# Altium footprint library EEG_PcbLib.PcbLib: 129 footprints (part 5 of 9)
Each footprint in its own frame and in the unit in brackets; x right, y up, seen from the top. Pads: shape width x height; smd on the part's side, far side on the other; paste and mask are expansions set on the pad; w line width, h text height; cw(c..) or ccw(c..) is an arc to the next point about the centre after c.
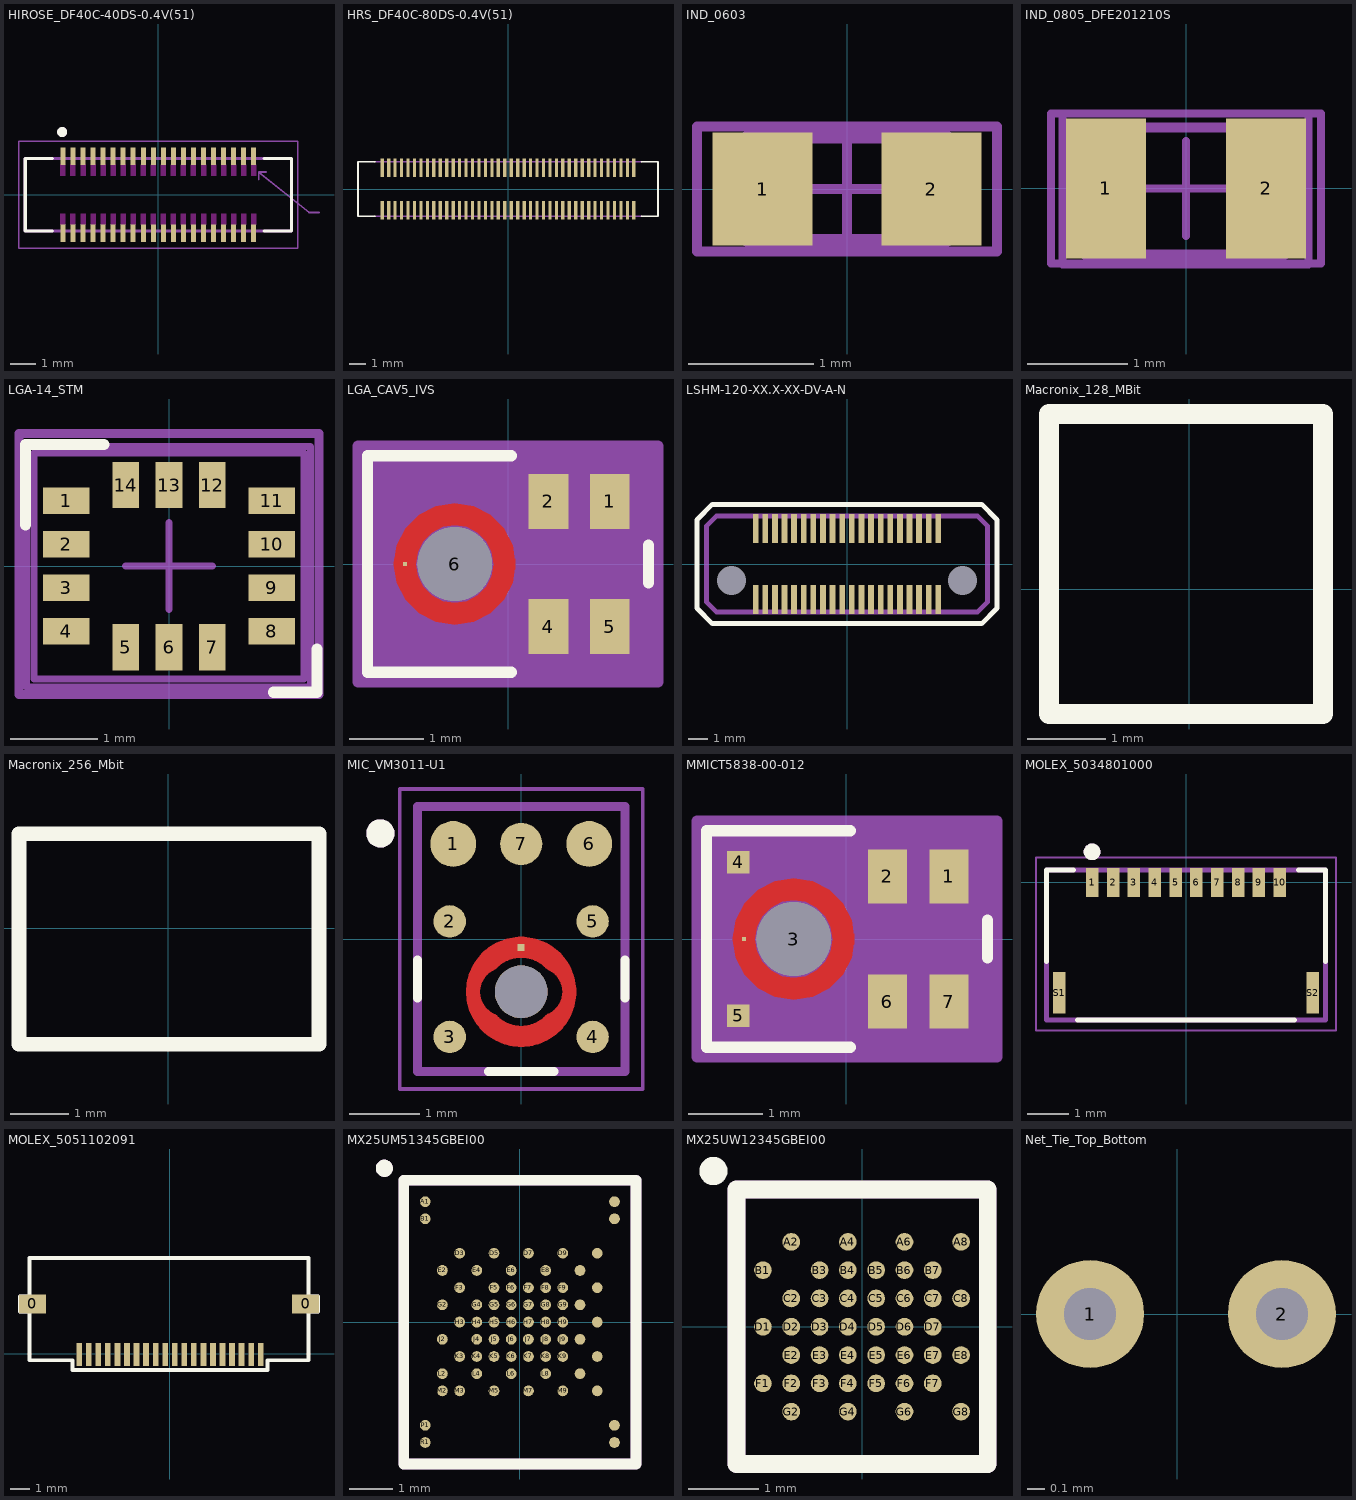
[diagram p4: the footprints below, top view; thin cyan lines are the x and y axes]

## HIROSE_DF40C-40DS-0.4V(51) [mm]
pads (40):
  rect 0.2x0.7 smd paste-1: 1(-3.8,1.54) 2(-3.8,-1.54) 3(-3.4,1.54) 4(-3.4,-1.54) 5(-3,1.54) 6(-3,-1.54) 7(-2.6,1.54) 8(-2.6,-1.54) 9(-2.2,1.54) 10(-2.2,-1.54) 11(-1.8,1.54) 12(-1.8,-1.54) 13(-1.4,1.54) 14(-1.4,-1.54) 15(-1,1.54) 16(-1,-1.54) 17(-0.6,1.54) 18(-0.6,-1.54) 19(-0.2,1.54) 20(-0.2,-1.54) 21(0.2,1.54) 22(0.2,-1.54) 23(0.6,1.54) 24(0.6,-1.54) 25(1,1.54) 26(1,-1.54) 27(1.4,1.54) 28(1.4,-1.54) 29(1.8,1.54) 30(1.8,-1.54) 31(2.2,1.54) 32(2.2,-1.54) 33(2.6,1.54) 34(2.6,-1.54) 35(3,1.54) 36(3,-1.54) 37(3.4,1.54) 38(3.4,-1.54) 39(3.8,1.54) 40(3.8,-1.54)
Top Overlay:
  circle w0.2: c-3.83,2.5 r0.1
  lines w0.127: -4.22,-1.44 -5.3,-1.44 -5.3,1.44 -4.22,1.44 ; 4.22,-1.44 5.3,-1.44 5.3,1.44 4.22,1.44
Top Paste:
  drawing of 40 lines, arcs and shapes, not listed
Keep-Out Layer:
  drawing of 44 lines, arcs and shapes, not listed
Mechanical 13:
  circle w0.2: c-3.83,2.5 r0.1
  lines w0.076: 4,0.6 4,0.9 ; 4.3,0.9 4,0.9 ; 6.4,-0.7 6,-0.7 4,0.9
  lines w0.127: -5.3,-1.44 5.3,-1.44 5.3,1.44 -5.3,1.44 -5.3,-1.44
  text "other than same circuit" at 6.66,-1.953 h0.41
  text "No Pattern area" at 6.66,-1.14 h0.41
Mechanical 15:
  lines w0.05: -5.55,-2.14 -5.55,2.14 5.55,2.14 5.55,-2.14 -5.55,-2.14
3D body "df40c-40ds-0_4v_51_.stp": height 1.46, standoff 0.01, extent -5.415,-1.69 5.185,1.69

## HRS_DF40C-80DS-0.4V(51) [mm]
pads (80):
  rect 0.2x1.14 smd: 1(-7.8,-1.32) 2(-7.8,1.32) 3(-7.4,-1.32) 4(-7.4,1.32) 5(-7,-1.32) 6(-7,1.32) 7(-6.6,-1.32) 8(-6.6,1.32) 9(-6.2,-1.32) 10(-6.2,1.32) 11(-5.8,-1.32) 12(-5.8,1.32) 13(-5.4,-1.32) 14(-5.4,1.32) 15(-5,-1.32) 16(-5,1.32) 17(-4.6,-1.32) 18(-4.6,1.32) 19(-4.2,-1.32) 20(-4.2,1.32) 21(-3.8,-1.32) 22(-3.8,1.32) 23(-3.4,-1.32) 24(-3.4,1.32) 25(-3,-1.32) 26(-3,1.32) 27(-2.6,-1.32) 28(-2.6,1.32) 29(-2.2,-1.32) 30(-2.2,1.32) 31(-1.8,-1.32) 32(-1.8,1.32) 33(-1.4,-1.32) 34(-1.4,1.32) 35(-1,-1.32) 36(-1,1.32) 37(-0.6,-1.32) 38(-0.6,1.32) 39(-0.2,-1.32) 40(-0.2,1.32) 41(0.2,-1.32) 42(0.2,1.32) 43(0.6,-1.32) 44(0.6,1.32) 45(1,-1.32) 46(1,1.32) 47(1.4,-1.32) 48(1.4,1.32) 49(1.8,-1.32) 50(1.8,1.32) 51(2.2,-1.32) 52(2.2,1.32) 53(2.6,-1.32) 54(2.6,1.32) 55(3,-1.32) 56(3,1.32) 57(3.4,-1.32) 58(3.4,1.32) 59(3.8,-1.32) 60(3.8,1.32) 61(4.2,-1.32) 62(4.2,1.32) 63(4.6,-1.32) 64(4.6,1.32) 65(5,-1.32) 66(5,1.32) 67(5.4,-1.32) 68(5.4,1.32) 69(5.8,-1.32) 70(5.8,1.32) 71(6.2,-1.32) 72(6.2,1.32) 73(6.6,-1.32) 74(6.6,1.32) 75(7,-1.32) 76(7,1.32) 77(7.4,-1.32) 78(7.4,1.32) 79(7.8,-1.32) 80(7.8,1.32)
Top Overlay:
  lines w0.1: -8.25,-1.691 -9.301,-1.691 -9.301,1.691 -8.25,1.691 ; 8.25,1.691 9.299,1.691 9.299,-1.691 8.251,-1.691
Mechanical 13:
  lines w0.1: -8.25,-1.691 8.251,-1.691 ; -8.25,1.691 8.25,1.691 ; 8.251,-1.691 8.251,-1.691
3D body "DF40C-80DS-0.4V(51)--3DModel-STEP-56544.STEP": height 1.66, standoff 0.01, extent -9.3,-1.69 9.3,1.69

## IND_0603 [mm] "0603 Inductor"
height 0.89
pads (2):
  rect 0.8x0.9 smd: 1(-0.675,0) 2(0.675,0)
Top Assembly:
  lines w0.08: -1.2,-0.5 -1.2,0.5 1.2,0.5 1.2,-0.5 -1.2,-0.5
Top Component Outline:
  lines w0.1: -0.8,-0.41 -0.8,0.415 0.8,0.415 0.8,-0.41 -0.8,-0.41
Top Component Center:
  lines w0.08: -0.475,0 0.475,0 ; 0,-0.475 0,0.475
3D body "FER 0603.STEP": height 0.82, standoff 0, extent -0.8,-0.412 0.8,0.412

## IND_0805_DFE201210S [mm] "0805 Inductor"
height 0.89
pads (2):
  rect 0.8x1.4 smd: 1(-0.8,0) 2(0.8,0)
Top Assembly:
  lines w0.08: -1.35,-0.75 1.35,-0.75 1.35,0.75 -1.35,0.75 -1.35,-0.75
Top Courtyard:
  lines w0.08: -1.237,-0.763 1.226,-0.763 1.226,0.75 -1.237,0.75 -1.237,-0.763
Top Component Outline:
  lines w0.1: -1.016,-0.66 0.991,-0.66 0.991,0.61 -1.016,0.61 -1.016,-0.66
Top Component Center:
  lines w0.08: -0.475,0 0.475,0 ; 0,-0.475 0,0.475
3D body "FER 0805.STEP": height 1.02, standoff -0.26, extent -1,-0.639 1,0.635

## LGA-14_STM [mil] "LG1-14 package of STM comatible with various components"
pads (14):
  rect 21x12 smd: 1(-46.5,29.54) 2(-46.5,9.85) 3(-46.5,-9.85) 4(-46.5,-29.54) 8(46.5,-29.54) 9(46.5,-9.85) 10(46.5,9.85) 11(46.5,29.54)
  rect 12x21 smd: 5(-19.69,-36.74) 6(0,-36.74) 7(19.69,-36.74) 12(19.69,36.74) 13(0,36.74) 14(-19.69,36.74)
Top Overlay:
  lines w5: -64.96,18.7 -64.96,55.12 -29.53,55.12 ; 47.24,-57.09 66.93,-57.09 66.93,-37.4
Top Assembly:
  lines w3.94: -67.91,-58.07 -67.91,60.04 67.91,60.04 67.91,-58.07 -67.91,-58.07
Top Courtyard:
  lines w3.15: -64.48,-54.64 63.98,-54.64 63.98,54.14 -64.48,54.14 -64.48,-54.64
Top Component Outline:
  lines w3.15: -61.02,-51.18 61.02,-51.18 61.02,51.18 -61.02,51.18 -61.02,-51.18
Top Component Center:
  lines w3.15: -19.68,0 19.69,0 ; 0,-19.69 0,19.68
3D body "QFN_DHCXTR_STM.step": height 55.12, standoff 0, extent -60.98,-50.98 60.99,50.99

## LGA_CAV5_IVS [mil]
pads (6):
  rect 21x29 smd paste-14.5 mask-14.5: 1(53.6,32.97) 2(21.24,32.97) 4(21.24,-32.97) 5(53.6,-32.97)
  rect 2x2 smd paste-1 mask-1: 3(-54.31,0)
  round 39 / inner round 60 / far side round 39 hole 39 unplated paste-99999 mask-19.5: 6(-28.06,0)
Top Layer:
  region: -7.63,1.79 3.82,2.79 3.94,0 2.38,-9.89 -2.17,-18.81 -9.25,-25.89 -18.17,-30.43 -28.06,-32 -37.94,-30.43 -46.86,-25.89 -53.94,-18.81 -58.49,-9.89 -60.06,0 -59.93,2.79 -48.48,1.79 -48.56,0 -47.55,-6.33 -44.64,-12.05 -40.1,-16.58 -34.39,-19.5 -28.06,-20.5 -21.72,-19.5 -16.01,-16.58 -11.47,-12.05 -8.56,-6.33 -7.56,0
  region: -7.63,-1.79 3.82,-2.79 3.94,0 2.38,9.89 -2.17,18.81 -9.25,25.89 -18.17,30.43 -28.06,32 -37.94,30.43 -46.86,25.89 -53.94,18.81 -58.49,9.89 -60.06,0 -59.93,-2.79 -48.48,-1.79 -48.56,0 -47.55,6.33 -44.64,12.05 -40.1,16.58 -34.39,19.5 -28.06,20.5 -21.72,19.5 -16.01,16.58 -11.47,12.05 -8.56,6.33 -7.56,0
Top Overlay:
  lines w6: 1.75,-57 -74,-57 -74,57 1.75,57 ; 74,-9.9 74,9.9
Top Paste:
  region: -7.63,1.79 3.82,2.79 3.94,0 2.38,-9.89 -2.17,-18.81 -9.25,-25.89 -18.17,-30.43 -28.06,-32 -37.94,-30.43 -46.86,-25.89 -53.94,-18.81 -58.49,-9.89 -60.06,0 -59.93,2.79 -48.48,1.79 -48.56,0 -47.55,-6.33 -44.64,-12.05 -40.1,-16.58 -34.39,-19.5 -28.06,-20.5 -21.72,-19.5 -16.01,-16.58 -11.47,-12.05 -8.56,-6.33 -7.56,0
  region: -7.63,-1.79 3.82,-2.79 3.94,0 2.38,9.89 -2.17,18.81 -9.25,25.89 -18.17,30.43 -28.06,32 -37.94,30.43 -46.86,25.89 -53.94,18.81 -58.49,9.89 -60.06,0 -59.93,-2.79 -48.48,-1.79 -48.56,0 -47.55,6.33 -44.64,12.05 -40.1,16.58 -34.39,19.5 -28.06,20.5 -21.72,19.5 -16.01,16.58 -11.47,12.05 -8.56,6.33 -7.56,0
Top Solder:
  region: -7.63,1.79 3.82,2.79 3.94,0 2.38,-9.89 -2.17,-18.81 -9.25,-25.89 -18.17,-30.43 -28.06,-32 -37.94,-30.43 -46.86,-25.89 -53.94,-18.81 -58.49,-9.89 -60.06,0 -59.93,2.79 -48.48,1.79 -48.56,0 -47.55,-6.33 -44.64,-12.05 -40.1,-16.58 -34.39,-19.5 -28.06,-20.5 -21.72,-19.5 -16.01,-16.58 -11.47,-12.05 -8.56,-6.33 -7.56,0
  region: -7.63,-1.79 3.82,-2.79 3.94,0 2.38,9.89 -2.17,18.81 -9.25,25.89 -18.17,30.43 -28.06,32 -37.94,30.43 -46.86,25.89 -53.94,18.81 -58.49,9.89 -60.06,0 -59.93,-2.79 -48.48,-1.79 -48.56,0 -47.55,6.33 -44.64,12.05 -40.1,16.58 -34.39,19.5 -28.06,20.5 -21.72,19.5 -16.01,16.58 -11.47,12.05 -8.56,6.33 -7.56,0
Mechanical 13:
  lines w1: -69,-52 -69,52 69,52 69,-52 -69,-52
Mechanical 15:
  region: 69,-52 -69,-52 -69,52 69,52
  region: 79,-62 -79,-62 -79,62 79,62
  lines w6: -79,-62 79,-62 79,62 -79,62 -79,-62
3D body "T5838.stp": height 38.23, standoff -0.39, extent -68.9,-52.17 68.9,52.17

## LSHM-120-XX.X-XX-DV-A-N [mm]
pads (42):
  rect 0.3x1.5 smd mask+0.05: 1(4.75,-1.85) 2(4.75,1.85) 3(4.25,-1.85) 4(4.25,1.85) 5(3.75,-1.85) 6(3.75,1.85) 7(3.25,-1.85) 8(3.25,1.85) 9(2.75,-1.85) 10(2.75,1.85) 11(2.25,-1.85) 12(2.25,1.85) 13(1.75,-1.85) 14(1.75,1.85) 15(1.25,-1.85) 16(1.25,1.85) 17(0.75,-1.85) 18(0.75,1.85) 19(0.25,-1.85) 20(0.25,1.85) 21(-0.25,-1.85) 22(-0.25,1.85) 23(-0.75,-1.85) 24(-0.75,1.85) 25(-1.25,-1.85) 26(-1.25,1.85) 27(-1.75,-1.85) 28(-1.75,1.85) 29(-2.25,-1.85) 30(-2.25,1.85) 31(-2.75,-1.85) 32(-2.75,1.85) 33(-3.25,-1.85) 34(-3.25,1.85) 35(-3.75,-1.85) 36(-3.75,1.85) 37(-4.25,-1.85) 38(-4.25,1.85) 39(-4.75,-1.85) 40(-4.75,1.85)
  round 0 hole 1.5 unplated: 41(6,-0.85) 42(-6,-0.85)
Top Overlay:
  lines w0.25: -7.8,-2.3 -7,-3.1 7,-3.1 7.8,-2.3 7.8,2.3 7,3.1 -7,3.1 -7.8,2.3 -7.8,-2.3
Mechanical 1:
  lines w0.25: -7.3,-1.99 -6.8,-2.49 6.8,-2.49 7.3,-1.99 7.3,1.99 6.8,2.49 -6.8,2.49 -7.3,1.99 -7.3,-1.99
  text "J1" at -0.439,-0.45 h0.75
3D body "LSHM-120-03.0-L-DV-A-N-K-TR.stp": height 4.61, standoff -0.84, extent -7.4,-2.49 7.4,2.49

## Macronix_128_MBit [mm]
Top Overlay:
  lines w0.254: -1.8,-1.6 1.72,-1.6 1.72,2.25 -1.8,2.25 -1.8,-1.6

## Macronix_256_Mbit [mm]
Top Overlay:
  lines w0.254: -2.58,-2 2.6,-2 2.6,1.63 -2.58,1.63 -2.58,-2

## MIC_VM3011-U1 [mm]
pads (9):
  round 0.65 smd: 1(-0.965,1.35) 6(0.965,1.35)
  round 0.46 smd: 2(-1.015,0.25) 3(-1.015,-1.39) 4(1.015,-1.39) 5(1.015,0.25)
  round 0.6 smd: 7(0,1.35)
  rect 0.1x0.1 smd paste-1 mask+0: 8(0,-0.12)
  round 0.75 hole 0.75 unplated mask+0.51: ""(0,-0.75)
Top Layer:
  region: 120 vertices and 1 holes, not listed, extent -0.78,-1.53 0.78,0.03
Top Overlay:
  circle w0.2: c-2,1.5 r0.1
  lines w0.127: -1.475,-0.84 -1.475,-0.3 ; -0.465,-1.88 0.465,-1.88 ; 1.475,-0.84 1.475,-0.3
Top Paste:
  drawing of 4 lines, arcs and shapes, not listed
Mechanical 13:
  circle w0.2: c-2,1.5 r0.1
  lines w0.127: -1.475,-1.88 -1.475,1.88 1.475,1.88 1.475,-1.88 -1.475,-1.88
Mechanical 15:
  lines w0.05: -1.725,-2.13 -1.725,2.13 1.725,2.13 1.725,-2.13 -1.725,-2.13

## MMICT5838-00-012 [mm]
pads (8):
  rect 0.522x0.725 smd: 1(1.37,0.837) 2(0.548,0.837) 6(0.548,-0.837) 7(1.37,-0.837)
  rect 0.051x0.051 smd paste-0.025 mask-0.025: 3(-1.37,0)
  round 0.991 / inner round 1.524 / far side round 0.991 hole 0.991 unplated paste-2539.97 mask-0.495: 3(-0.704,0)
  rect 0.3x0.3 smd: 4(-1.444,1.025) 5(-1.444,-1.025)
Top Layer:
  region: -0.185,0.045 0.106,0.071 0.109,0 0.069,-0.251 -0.046,-0.478 -0.226,-0.658 -0.452,-0.773 -0.704,-0.813 -0.955,-0.773 -1.181,-0.658 -1.361,-0.478 -1.477,-0.251 -1.516,0 -1.513,0.071 -1.222,0.045 -1.224,0 -1.199,-0.161 -1.125,-0.306 -1.01,-0.421 -0.865,-0.495 -0.704,-0.521 -0.543,-0.495 -0.398,-0.421 -0.282,-0.306 -0.208,-0.161 -0.183,0
  region: -0.185,-0.045 0.106,-0.071 0.109,0 0.069,0.251 -0.046,0.478 -0.226,0.658 -0.452,0.773 -0.704,0.813 -0.955,0.773 -1.181,0.658 -1.361,0.478 -1.477,0.251 -1.516,0 -1.513,-0.071 -1.222,-0.045 -1.224,0 -1.199,0.161 -1.125,0.306 -1.01,0.421 -0.865,0.495 -0.704,0.521 -0.543,0.495 -0.398,0.421 -0.282,0.306 -0.208,0.161 -0.183,0
Top Overlay:
  lines w0.152: 0.053,-1.448 -1.871,-1.448 -1.871,1.448 0.053,1.448 ; 1.889,-0.251 1.889,0.251
Top Paste:
  region: -0.185,0.045 0.106,0.071 0.109,0 0.069,-0.251 -0.046,-0.478 -0.226,-0.658 -0.452,-0.773 -0.704,-0.813 -0.955,-0.773 -1.181,-0.658 -1.361,-0.478 -1.477,-0.251 -1.516,0 -1.513,0.071 -1.222,0.045 -1.224,0 -1.199,-0.161 -1.125,-0.306 -1.01,-0.421 -0.865,-0.495 -0.704,-0.521 -0.543,-0.495 -0.398,-0.421 -0.282,-0.306 -0.208,-0.161 -0.183,0
  region: -0.185,-0.045 0.106,-0.071 0.109,0 0.069,0.251 -0.046,0.478 -0.226,0.658 -0.452,0.773 -0.704,0.813 -0.955,0.773 -1.181,0.658 -1.361,0.478 -1.477,0.251 -1.516,0 -1.513,-0.071 -1.222,-0.045 -1.224,0 -1.199,0.161 -1.125,0.306 -1.01,0.421 -0.865,0.495 -0.704,0.521 -0.543,0.495 -0.398,0.421 -0.282,0.306 -0.208,0.161 -0.183,0
Top Solder:
  region: -0.185,0.045 0.106,0.071 0.109,0 0.069,-0.251 -0.046,-0.478 -0.226,-0.658 -0.452,-0.773 -0.704,-0.813 -0.955,-0.773 -1.181,-0.658 -1.361,-0.478 -1.477,-0.251 -1.516,0 -1.513,0.071 -1.222,0.045 -1.224,0 -1.199,-0.161 -1.125,-0.306 -1.01,-0.421 -0.865,-0.495 -0.704,-0.521 -0.543,-0.495 -0.398,-0.421 -0.282,-0.306 -0.208,-0.161 -0.183,0
  region: -0.185,-0.045 0.106,-0.071 0.109,0 0.069,0.251 -0.046,0.478 -0.226,0.658 -0.452,0.773 -0.704,0.813 -0.955,0.773 -1.181,0.658 -1.361,0.478 -1.477,0.251 -1.516,0 -1.513,-0.071 -1.222,-0.045 -1.224,0 -1.199,0.161 -1.125,0.306 -1.01,0.421 -0.865,0.495 -0.704,0.521 -0.543,0.495 -0.398,0.421 -0.282,0.306 -0.208,0.161 -0.183,0
Mechanical 13:
  lines w0.025: -1.744,-1.321 -1.744,1.321 1.762,1.321 1.762,-1.321 -1.744,-1.321
Mechanical 15:
  region: 1.762,-1.321 -1.744,-1.321 -1.744,1.321 1.762,1.321
  region: 2.016,-1.575 -1.998,-1.575 -1.998,1.575 2.016,1.575
  lines w0.152: -1.998,-1.575 2.016,-1.575 2.016,1.575 -1.998,1.575 -1.998,-1.575
3D body "T5838.stp": height 0.97, standoff -0.01, extent -1.741,-1.325 1.759,1.325

## MOLEX_5034801000 [mm]
pads (12):
  rect 0.3x0.7 smd: 1(-2.25,0) 2(-1.75,0) 3(-1.25,0) 4(-0.75,0) 5(-0.25,0) 6(0.25,0) 7(0.75,0) 8(1.25,0) 9(1.75,0) 10(2.25,0)
  rect 0.3x1 smd: S1(-3.04,-2.65) S2(3.04,-2.65)
Top Overlay:
  circle w0.2: c-2.255,0.735 r0.1
  lines w0.127: -3.35,-1.9 -3.35,0.3 -2.7,0.3 ; -2.6,-3.3 2.6,-3.3 ; 2.7,0.3 3.35,0.3 3.35,-1.9
Mechanical 13:
  circle w0.2: c-2.255,0.735 r0.1
  lines w0.127: -3.35,-3.3 -3.35,0.3 3.35,0.3 3.35,-3.3 -3.35,-3.3
Mechanical 15:
  lines w0.05: -3.6,-3.55 -3.6,0.6 3.6,0.6 3.6,-3.55 -3.6,-3.55
3D body "5034801000.stp": height 1.88, standoff 0.01, extent -3.35,-3.3 3.35,0.3

## MOLEX_5051102091 [mm]
pads (22):
  rect 1.4x1 smd: 0(-7.2,2.6) 0(7.1,2.6)
  rect 0.3x1.2 smd: 1(-4.75,-0.05) 2(-4.25,-0.05) 3(-3.75,-0.05) 4(-3.25,-0.05) 5(-2.75,-0.05) 6(-2.25,-0.05) 7(-1.75,-0.05) 8(-1.25,-0.05) 9(-0.75,-0.05) 10(-0.25,-0.05) 11(0.25,-0.05) 12(0.75,-0.05) 13(1.25,-0.05) 14(1.75,-0.05) 15(2.25,-0.05) 16(2.75,-0.05) 17(3.25,-0.05) 18(3.75,-0.05) 19(4.25,-0.05) 20(4.75,-0.05)
Top Overlay:
  lines w0.2: -7.85,2.2 -7.35,2.2 -7.35,-0.35 -5.1,-0.35 -5.1,-0.85 5.1,-0.85 5.1,-0.35 7.25,-0.35 7.25,2.2 7.75,2.2 7.75,3 7.25,3 7.25,5 -7.35,5 -7.35,3 -7.85,3 -7.85,2.2
3D body "5051102091.stp": height 1.88, standoff -0.02, extent -7.75,-0.3 7.75,5

## MX25UM51345GBEI00 [mm] "WLCSP 68 512 Mbit Flash"
pads (68):
  round 0.25 smd mask-0.02: A1(-2.2,2.8) A12(2.2,2.8) B1(-2.2,2.4) B12(2.2,2.4) D3(-1.4,1.6) D5(-0.6,1.6) D7(0.2,1.6) D9(1,1.6) D11(1.8,1.6) E2(-1.8,1.2) E4(-1,1.2) E6(-0.2,1.2) E8(0.6,1.2) E10(1.4,1.2) F3(-1.4,0.8) F5(-0.6,0.8) F6(-0.2,0.8) F7(0.2,0.8) F8(0.6,0.8) F9(1,0.8) F11(1.8,0.8) G2(-1.8,0.4) G4(-1,0.4) G5(-0.6,0.4) G6(-0.2,0.4) G7(0.2,0.4) G8(0.6,0.4) G9(1,0.4) G10(1.4,0.4) H3(-1.4,0) H4(-1,0) H5(-0.6,0) H6(-0.2,0) H7(0.2,0) H8(0.6,0) H9(1,0) H11(1.8,0) J2(-1.8,-0.4) J4(-1,-0.4) J5(-0.6,-0.4) J6(-0.2,-0.4) J7(0.2,-0.4) J8(0.6,-0.4) J9(1,-0.4) J10(1.4,-0.4) K3(-1.4,-0.8) K4(-1,-0.8) K5(-0.6,-0.8) K6(-0.2,-0.8) K7(0.2,-0.8) K8(0.6,-0.8) K9(1,-0.8) K11(1.8,-0.8) L2(-1.8,-1.2) L4(-1,-1.2) L6(-0.2,-1.2) L8(0.6,-1.2) L10(1.4,-1.2) M2(-1.8,-1.6) M3(-1.4,-1.6) M5(-0.6,-1.6) M7(0.2,-1.6) M9(1,-1.6) M11(1.8,-1.6) P1(-2.2,-2.4) P12(2.2,-2.4) R1(-2.2,-2.8) R12(2.2,-2.8)
Top Overlay:
  circle w0.2: c-3.15,3.575 r0.1
  lines w0.25: -2.7,-3.3 2.7,-3.3 2.7,3.3 -2.7,3.3 -2.7,-3.3
Mechanical 1:
  circle w0.2: c-3.15,3.575 r0.1
  lines w0.25: -2.7,-3.3 2.7,-3.3 2.7,3.3 -2.7,3.3 -2.7,-3.3
Top Assembly:
  circle w0.2: c-3.15,3.575 r0.1
  lines w0.25: -2.7,-3.3 2.7,-3.3 2.7,3.3 -2.7,3.3 -2.7,-3.3
3D body: height 0.51, standoff 0.21, extent -2.65,-3.25 2.675,3.25

## MX25UW12345GBEI00 [mm] "128Mbit Flash"
pads (42):
  round 0.25 smd mask-0.02: A2(-1,1.2) A4(-0.2,1.2) A6(0.6,1.2) A8(1.4,1.2) B1(-1.4,0.8) B3(-0.6,0.8) B4(-0.2,0.8) B5(0.2,0.8) B6(0.6,0.8) B7(1,0.8) C2(-1,0.4) C3(-0.6,0.4) C4(-0.2,0.4) C5(0.2,0.4) C6(0.6,0.4) C7(1,0.4) C8(1.4,0.4) D1(-1.4,0) D2(-1,0) D3(-0.6,0) D4(-0.2,0) D5(0.2,0) D6(0.6,0) D7(1,0) E2(-1,-0.4) E3(-0.6,-0.4) E4(-0.2,-0.4) E5(0.2,-0.4) E6(0.6,-0.4) E7(1,-0.4) E8(1.4,-0.4) F1(-1.4,-0.8) F2(-1,-0.8) F3(-0.6,-0.8) F4(-0.2,-0.8) F5(0.2,-0.8) F6(0.6,-0.8) F7(1,-0.8) G2(-1,-1.2) G4(-0.2,-1.2) G6(0.6,-1.2) G8(1.4,-1.2)
Top Overlay:
  circle w0.2: c-2.1,2.2 r0.1
  lines w0.25: -1.775,-1.94 -1.775,1.94 1.775,1.94 1.775,-1.94 -1.775,-1.94
Mechanical 1:
  lines w0.25: -1.775,-1.94 -1.775,1.94 1.775,1.94 1.775,-1.94 -1.775,-1.94

## Net_Tie_Top_Bottom [mm]
pads (2):
  round 0.62 hole 0.3 mask+0.102: 1(-0.5,0) 2(0.6,0)
Multi-Layer:
  rectangle: -0.225,-0.1 0.325,0.1